# Altium schematic symbol library Schlib1.SchLib: 13 symbols
Pins are listed as number, name and electrical type; pins without a type are passive.

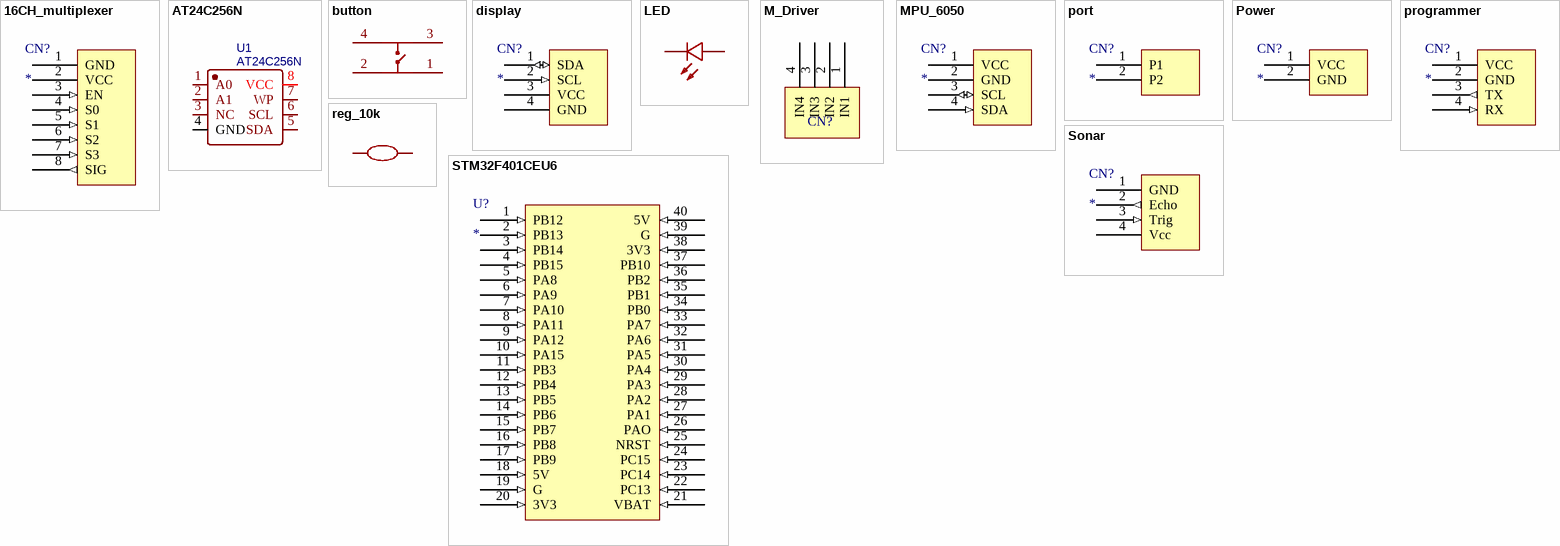
[diagram p0: symbols 16CH_multiplexer to STM32F401CEU6]

## 16CH_multiplexer
designator CN?
footprint 16CH_MUX
pins: 1 GND (power), 2 VCC (power), 3 EN (in), 4 S0 (in), 5 S1 (in), 6 S2 (in), 7 S3 (in), 8 SIG (out)

## AT24C256N
designator U1
Manufacturer: HGSEMI(华冠); Contributor: LCSC; Supplier: LCSC; Supplier Part: C434602; Manufacturer Part: AT24C256N; JLCPCB Part Class: Extended Part; spicePre: U; spiceSymbolName: AT24C256N
footprint DIP-8_L9.8-W6.6-P2.54-LS7.6-BL
pins: 1 A0, 2 A1, 3 NC, 4 GND, 5 SDA, 6 SCL, 7 WP, 8 VCC

## button
designator SW?, comment 1825910-7  (value not drawn)
Manufacturer: TE Connectivity(泰科电子); Add into BOM: yes; Circuit: SPST; Actuator Style: Round Button; Operating Force: 2.6N; Switch Height: 5mm; Strike Gundam: Without bracket; Contact Current: 50mA; Voltage Rating: 24V; Actuator/Cap Color: Red; Symbol: 1825910-7; Device: 1825910-7; LCSC Part Name: 5.99*5.99*5mm 直插 轻触开关; Supplier Part: C592731; Manufacturer Part: 1825910-7; Supplier Footprint: 插件; JLCPCB Part Class: Extended Part; Datasheet: https://atta.szlcsc.com/upload/public/pdf/source/20190912/C428628_64BAA15C1B0D0A7FBB2C11BEC7714D6D.pdf; Supplier: LCSC; Convert to PCB: yes; Mounting Type: Straight; Length: 5.99mm; Width: 5.99mm; Termination Style: PCPin; Life: -; Operating Temperature: -35℃~+85℃
footprint button
pins: 1, 2, 3, 4

## display
designator CN?
footprint display
pins: 1 SDA (io), 2 SCL (in), 3 VCC (power), 4 GND (power)

## LED
designator LED?, comment 333-2SURD/S530-A3  (value not drawn)
Manufacturer: EVERLIGHT(亿光); Add into BOM: yes; Lamp Holder Type: 5mm圆形灯头; Emitted Color: Red; Forward Voltage (VF): 2V; Forward Current: 20mA; Dominant Wavelength: 624nm; Peak Wavelength: 632nm; Lens Color: 红色透镜; Luminous Intensity: 200mcd; Viewing Angle: 30°; Symbol: 333-2SURD/S530-A3; Device: 333-2SURD/S530-A3; LCSC Part Name: 333-2SURD/S530-A3; Supplier Part: C87271; Manufacturer Part: 333-2SURD/S530-A3; Supplier Footprint: 插件,D=5mm; JLCPCB Part Class: Extended Part; Datasheet: https://atta.szlcsc.com/upload/public/pdf/source/20161119/1479540195109.pdf; Supplier: LCSC; Convert to PCB: yes
footprint LED-TH_BD5.9-P2.54-RD_RED
3D model LED-TH_BD5.9-P2.54-RD_RED
pins: 1 C, 2 A

## M_Driver
designator CN?  (value not drawn)
footprint M_driver
pins: 1 IN1, 2 IN2, 3 IN3, 4 IN4

## MPU_6050
designator CN?
footprint mpu_6050
pins: 1 VCC (power), 2 GND (power), 3 SCL (io), 4 SDA (in)

## port
designator CN?
footprint power
pins: 1 P1, 2 P2

## Power
designator CN?
footprint power
pins: 1 VCC (power), 2 GND (power)

## programmer
designator CN?
footprint Sonar
pins: 1 VCC (power), 2 GND (power), 3 TX (out), 4 RX (in)

## reg_10k
designator R?, comment 10kΩ  (value not drawn)
Manufacturer: VISHAY(威世); Symbol: MBB02070C1002FCT00; Add into BOM: yes; Tolerance: ±1%; Power(Watts): 600mW; Temperature Coefficient: ±50ppm/℃; Device: MBB02070C1002FCT00; LCSC Part Name: 金属膜电阻 10kΩ ±1% 600mW; Supplier Part: C1364513; Manufacturer Part: MBB02070C1002FCT00; Supplier Footprint: 插件,D2.5xL6.5mm; JLCPCB Part Class: Extended Part; Datasheet: https://atta.szlcsc.com/upload/public/pdf/source/20210430/B7BC0816ABBF03221EE8A99AEEE87AD9.pdf; Supplier: LCSC; Convert to PCB: yes; Type: Metal Film Resistors; Value: 10kΩ; Operating Temperature Range: -55℃~+155℃
footprint regsistor
pins: 1, 2

## Sonar
designator CN?
footprint Sonar
pins: 1 GND (power), 2 Echo (out), 3 Trig (in), 4 Vcc (power)

## STM32F401CEU6
designator U?
footprint STM32F411CE
pins: 1 PB12 (in), 2 PB13 (in), 3 PB14 (in), 4 PB15 (in), 5 PA8 (in), 6 PA9 (in), 7 PA10 (in), 8 PA11 (in), 9 PA12 (in), 10 PA15 (in), 11 PB3 (in), 12 PB4 (in), 13 PB5 (in), 14 PB6 (in), 15 PB7 (in), 16 PB8 (in), 17 PB9 (in), 18 5V (in), 19 G (in), 20 3V3 (in), 21 VBAT (in), 22 PC13 (in), 23 PC14 (in), 24 PC15 (in), 25 NRST (in), 26 PAO (in), 27 PA1 (in), 28 PA2 (in), 29 PA3 (in), 30 PA4 (in), 31 PA5 (in), 32 PA6 (in), 33 PA7 (in), 34 PB0 (in), 35 PB1 (in), 36 PB2 (in), 37 PB10 (in), 38 3V3 (in), 39 G (in), 40 5V (in)